# Altium integrated library Maxim Memory.IntLib: 366 symbols (part 6 of 7)
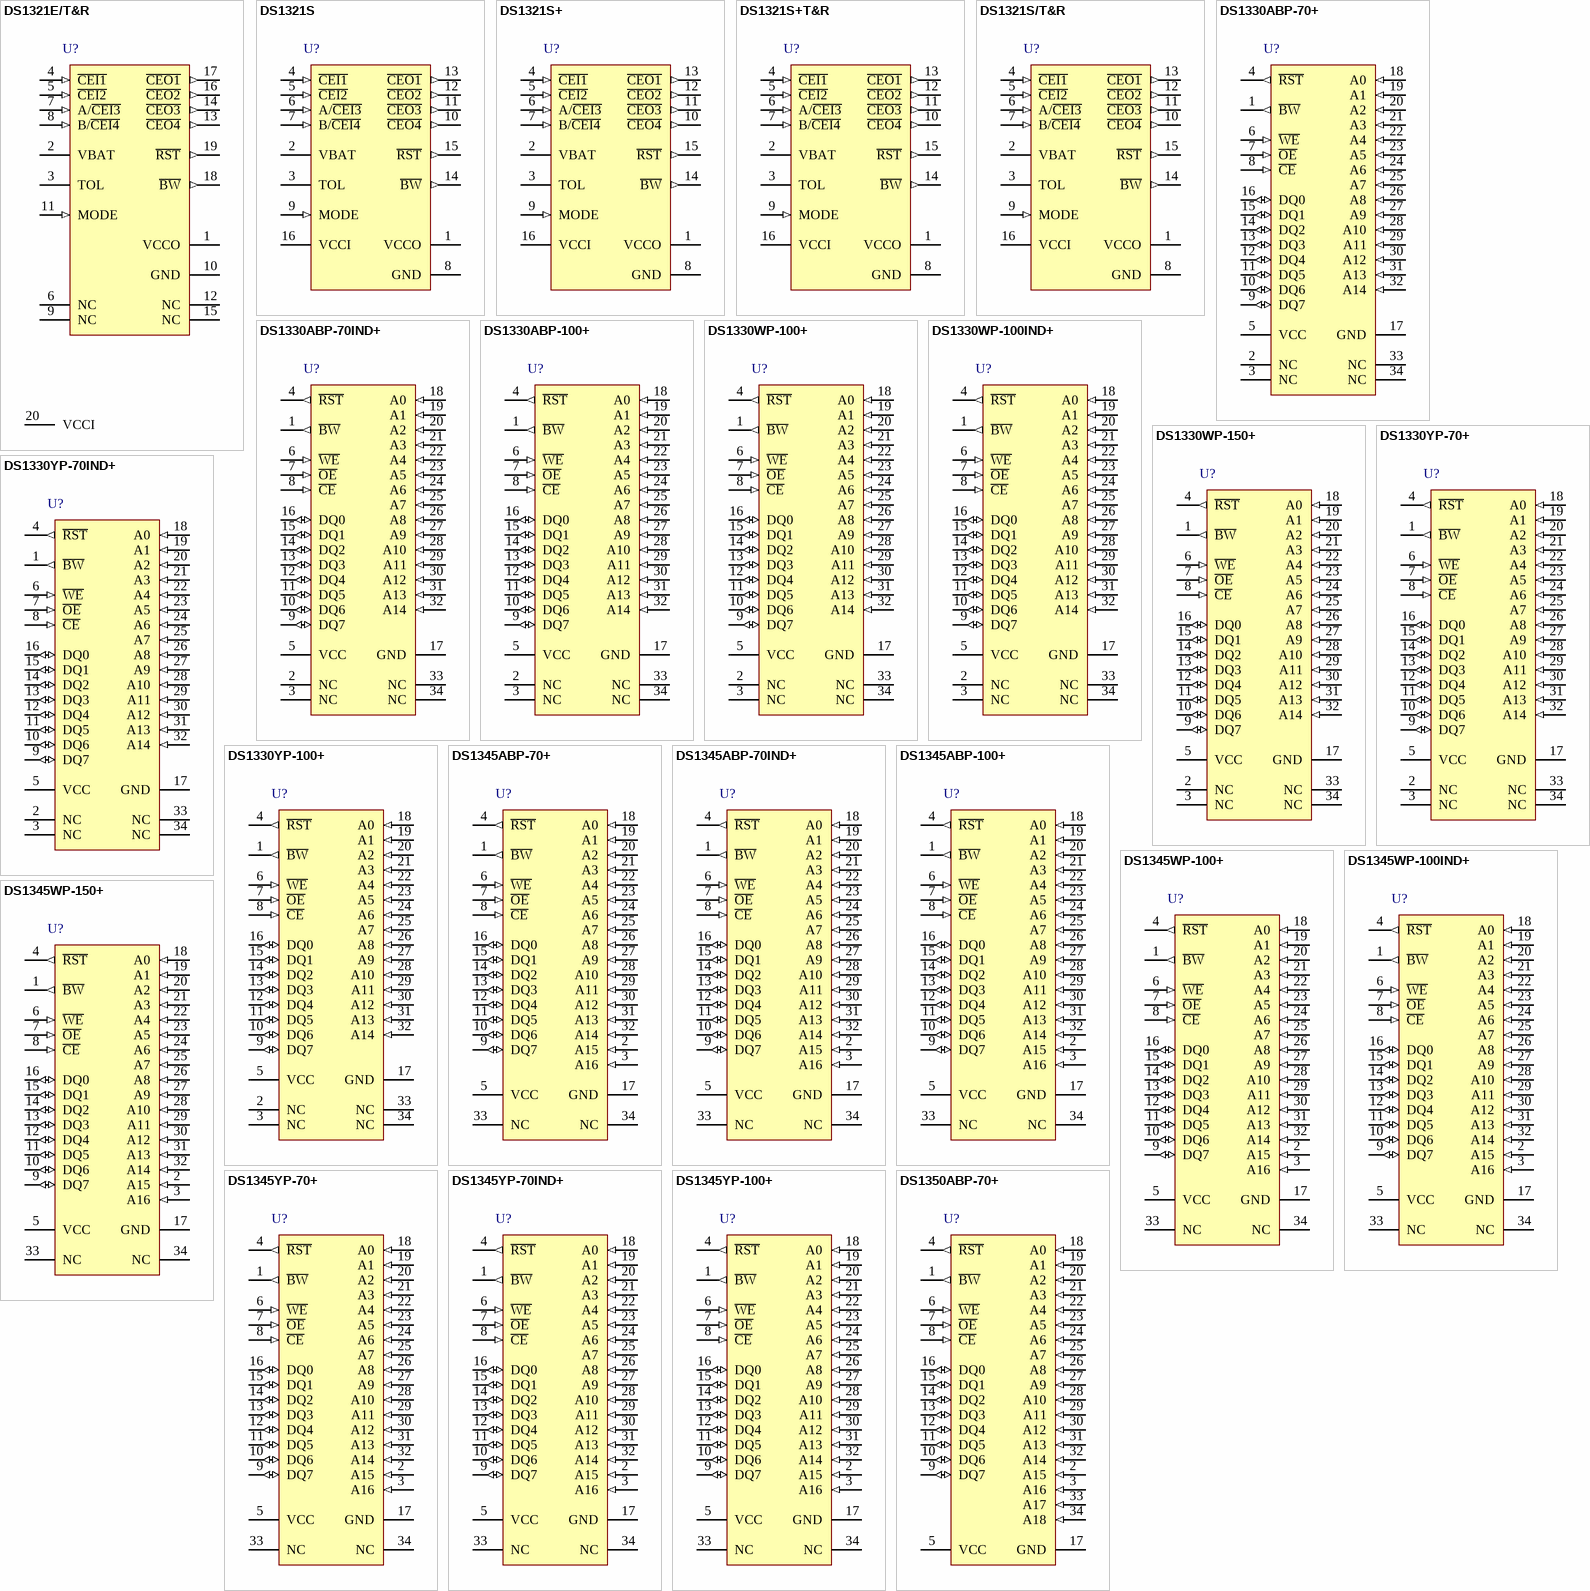
[diagram p18: symbols DS1321E/T&R to DS1350ABP-70+]

## DS1330WP-100+
designator U?
256Kb 3.3V Nonvolatile SRAM with Battery Monitor, 34-pin PCAP, 0° to + 70° C, Pb-Free; DatasheetVersion: 1/10/2010; PackageVersion: revA, 2004; PackageReference: PC2+4; PackageDescription: 34-Pin PowerCap 0.990 Module with Cap, Pb-Free; ComponentLink1Description: Manufacturer URL; ComponentLink1URL: www.maxim-ic.com; ComponentLink2Description: Datasheet; ComponentLink2URL: http://datasheets.maxim-ic.com/en/ds/DS1330W.pdf
footprint PC2+4 (PowerCap Module with Cap, 34-Leads, Body 24.7 x.25.3mm, Pitch 1.27mm)
pins: 1 ~{BW} (out), 2 NC, 3 NC, 4 ~{RST} (out), 5 VCC (power), 6 ~{WE} (in), 7 ~{OE} (in), 8 ~{CE} (in), 9 DQ7 (io), 10 DQ6 (io), 11 DQ5 (io), 12 DQ4 (io), 13 DQ3 (io), 14 DQ2 (io), 15 DQ1 (io), 16 DQ0 (io), 17 GND (power), 18 A0 (in), 19 A1 (in), 20 A2 (in), 21 A3 (in), 22 A4 (in), 23 A5 (in), 24 A6 (in), 25 A7 (in), 26 A8 (in), 27 A9 (in), 28 A10 (in), 29 A11 (in), 30 A12 (in), 31 A13 (in), 32 A14 (in), 33 NC, 34 NC

## DS1330WP-100IND+
designator U?
256Kb 3.3V Nonvolatile SRAM with Battery Monitor, 34-pin PCAP, -40° to + 85° C, Pb-Free; DatasheetVersion: 1/10/2010; PackageVersion: revA, 2004; PackageReference: PC2+4; PackageDescription: 34-Pin PowerCap 0.990 Module with Cap, Pb-Free; ComponentLink1Description: Manufacturer URL; ComponentLink1URL: www.maxim-ic.com; ComponentLink2Description: Datasheet; ComponentLink2URL: http://datasheets.maxim-ic.com/en/ds/DS1330W.pdf
footprint PC2+4 (PowerCap Module with Cap, 34-Leads, Body 24.7 x.25.3mm, Pitch 1.27mm)
pins: 1 ~{BW} (out), 2 NC, 3 NC, 4 ~{RST} (out), 5 VCC (power), 6 ~{WE} (in), 7 ~{OE} (in), 8 ~{CE} (in), 9 DQ7 (io), 10 DQ6 (io), 11 DQ5 (io), 12 DQ4 (io), 13 DQ3 (io), 14 DQ2 (io), 15 DQ1 (io), 16 DQ0 (io), 17 GND (power), 18 A0 (in), 19 A1 (in), 20 A2 (in), 21 A3 (in), 22 A4 (in), 23 A5 (in), 24 A6 (in), 25 A7 (in), 26 A8 (in), 27 A9 (in), 28 A10 (in), 29 A11 (in), 30 A12 (in), 31 A13 (in), 32 A14 (in), 33 NC, 34 NC

## DS1330WP-150+
designator U?
256Kb 3.3V Nonvolatile SRAM with Battery Monitor, 34-pin PCAP, 0° to + 70° C, Pb-Free; DatasheetVersion: 1/10/2010; PackageVersion: revA, 2004; PackageReference: PC2+4; PackageDescription: 34-Pin PowerCap 0.990 Module with Cap, Pb-Free; ComponentLink1Description: Manufacturer URL; ComponentLink1URL: www.maxim-ic.com; ComponentLink2Description: Datasheet; ComponentLink2URL: http://datasheets.maxim-ic.com/en/ds/DS1330W.pdf
footprint PC2+4 (PowerCap Module with Cap, 34-Leads, Body 24.7 x.25.3mm, Pitch 1.27mm)
pins: 1 ~{BW} (out), 2 NC, 3 NC, 4 ~{RST} (out), 5 VCC (power), 6 ~{WE} (in), 7 ~{OE} (in), 8 ~{CE} (in), 9 DQ7 (io), 10 DQ6 (io), 11 DQ5 (io), 12 DQ4 (io), 13 DQ3 (io), 14 DQ2 (io), 15 DQ1 (io), 16 DQ0 (io), 17 GND (power), 18 A0 (in), 19 A1 (in), 20 A2 (in), 21 A3 (in), 22 A4 (in), 23 A5 (in), 24 A6 (in), 25 A7 (in), 26 A8 (in), 27 A9 (in), 28 A10 (in), 29 A11 (in), 30 A12 (in), 31 A13 (in), 32 A14 (in), 33 NC, 34 NC

## DS1330YP-70+
designator U?
256Kb Nonvolatile SRAM with Battery Monitor, +/-10% VCC Operating range, 34-pin PCAP, 0° to + 70° C, Pb-Free; DatasheetVersion: 1/10/2010; PackageVersion: revA, 2004; PackageReference: PC2+4; PackageDescription: 34-Pin PowerCap 0.990 Module with Cap, Pb-Free; ComponentLink1Description: Manufacturer URL; ComponentLink1URL: www.maxim-ic.com; ComponentLink2Description: Datasheet; ComponentLink2URL: http://datasheets.maxim-ic.com/en/ds/DS1330AB-DS1330Y.pdf
footprint PC2+4 (PowerCap Module with Cap, 34-Leads, Body 24.7 x.25.3mm, Pitch 1.27mm)
pins: 1 ~{BW} (out), 2 NC, 3 NC, 4 ~{RST} (out), 5 VCC (power), 6 ~{WE} (in), 7 ~{OE} (in), 8 ~{CE} (in), 9 DQ7 (io), 10 DQ6 (io), 11 DQ5 (io), 12 DQ4 (io), 13 DQ3 (io), 14 DQ2 (io), 15 DQ1 (io), 16 DQ0 (io), 17 GND (power), 18 A0 (in), 19 A1 (in), 20 A2 (in), 21 A3 (in), 22 A4 (in), 23 A5 (in), 24 A6 (in), 25 A7 (in), 26 A8 (in), 27 A9 (in), 28 A10 (in), 29 A11 (in), 30 A12 (in), 31 A13 (in), 32 A14 (in), 33 NC, 34 NC

## DS1330YP-70IND+
designator U?
256Kb Nonvolatile SRAM with Battery Monitor, +/-10% VCC Operating range, 34-pin PCAP, -40° to + 85° C, Pb-Free; DatasheetVersion: 1/10/2010; PackageVersion: revA, 2004; PackageReference: PC2+4; PackageDescription: 34-Pin PowerCap 0.990 Module with Cap, Pb-Free; ComponentLink1Description: Manufacturer URL; ComponentLink1URL: www.maxim-ic.com; ComponentLink2Description: Datasheet; ComponentLink2URL: http://datasheets.maxim-ic.com/en/ds/DS1330AB-DS1330Y.pdf
footprint PC2+4 (PowerCap Module with Cap, 34-Leads, Body 24.7 x.25.3mm, Pitch 1.27mm)
pins: 1 ~{BW} (out), 2 NC, 3 NC, 4 ~{RST} (out), 5 VCC (power), 6 ~{WE} (in), 7 ~{OE} (in), 8 ~{CE} (in), 9 DQ7 (io), 10 DQ6 (io), 11 DQ5 (io), 12 DQ4 (io), 13 DQ3 (io), 14 DQ2 (io), 15 DQ1 (io), 16 DQ0 (io), 17 GND (power), 18 A0 (in), 19 A1 (in), 20 A2 (in), 21 A3 (in), 22 A4 (in), 23 A5 (in), 24 A6 (in), 25 A7 (in), 26 A8 (in), 27 A9 (in), 28 A10 (in), 29 A11 (in), 30 A12 (in), 31 A13 (in), 32 A14 (in), 33 NC, 34 NC

## DS1330YP-100+
designator U?
256Kb Nonvolatile SRAM with Battery Monitor, +/-10% VCC Operating range, 34-pin PCAP, 0° to + 70° C, Pb-Free; DatasheetVersion: 1/10/2010; PackageVersion: revA, 2004; PackageReference: PC2+4; PackageDescription: 34-Pin PowerCap 0.990 Module with Cap, Pb-Free; ComponentLink1Description: Manufacturer URL; ComponentLink1URL: www.maxim-ic.com; ComponentLink2Description: Datasheet; ComponentLink2URL: http://datasheets.maxim-ic.com/en/ds/DS1330AB-DS1330Y.pdf
footprint PC2+4 (PowerCap Module with Cap, 34-Leads, Body 24.7 x.25.3mm, Pitch 1.27mm)
pins: 1 ~{BW} (out), 2 NC, 3 NC, 4 ~{RST} (out), 5 VCC (power), 6 ~{WE} (in), 7 ~{OE} (in), 8 ~{CE} (in), 9 DQ7 (io), 10 DQ6 (io), 11 DQ5 (io), 12 DQ4 (io), 13 DQ3 (io), 14 DQ2 (io), 15 DQ1 (io), 16 DQ0 (io), 17 GND (power), 18 A0 (in), 19 A1 (in), 20 A2 (in), 21 A3 (in), 22 A4 (in), 23 A5 (in), 24 A6 (in), 25 A7 (in), 26 A8 (in), 27 A9 (in), 28 A10 (in), 29 A11 (in), 30 A12 (in), 31 A13 (in), 32 A14 (in), 33 NC, 34 NC

## DS1345ABP-70+
designator U?
1Mb Nonvolatile SRAM with Battery Monitor, +/-5% VCC Operating range, 34-pin PCAP, 0° to + 70° C, Pb-Free; DatasheetVersion: 1/10/2010; PackageVersion: revA, 2004; PackageReference: PC2+3; PackageDescription: 34-Pin PowerCap 0.990 Module with Cap, Pb-Free; ComponentLink1Description: Manufacturer URL; ComponentLink1URL: www.maxim-ic.com; ComponentLink2Description: Datasheet; ComponentLink2URL: http://datasheets.maxim-ic.com/en/ds/DS1345AB-DS1345Y.pdf
footprint PC2+3 (PowerCap Module with Cap, 34-Leads, Body 24.7 x.25.3mm, Pitch 1.27mm)
pins: 1 ~{BW} (out), 2 A15 (in), 3 A16 (in), 4 ~{RST} (out), 5 VCC (power), 6 ~{WE} (in), 7 ~{OE} (in), 8 ~{CE} (in), 9 DQ7 (io), 10 DQ6 (io), 11 DQ5 (io), 12 DQ4 (io), 13 DQ3 (io), 14 DQ2 (io), 15 DQ1 (io), 16 DQ0 (io), 17 GND (power), 18 A0 (in), 19 A1 (in), 20 A2 (in), 21 A3 (in), 22 A4 (in), 23 A5 (in), 24 A6 (in), 25 A7 (in), 26 A8 (in), 27 A9 (in), 28 A10 (in), 29 A11 (in), 30 A12 (in), 31 A13 (in), 32 A14 (in), 33 NC, 34 NC

## DS1345ABP-70IND+
designator U?
1Mb Nonvolatile SRAM with Battery Monitor, +/-5% VCC Operating range, 34-pin PCAP, -40° to + 85° C, Pb-Free; DatasheetVersion: 1/10/2010; PackageVersion: revA, 2004; PackageReference: PC2+3; PackageDescription: 34-Pin PowerCap 0.990 Module with Cap, Pb-Free; ComponentLink1Description: Manufacturer URL; ComponentLink1URL: www.maxim-ic.com; ComponentLink2Description: Datasheet; ComponentLink2URL: http://datasheets.maxim-ic.com/en/ds/DS1345AB-DS1345Y.pdf
footprint PC2+3 (PowerCap Module with Cap, 34-Leads, Body 24.7 x.25.3mm, Pitch 1.27mm)
pins: 1 ~{BW} (out), 2 A15 (in), 3 A16 (in), 4 ~{RST} (out), 5 VCC (power), 6 ~{WE} (in), 7 ~{OE} (in), 8 ~{CE} (in), 9 DQ7 (io), 10 DQ6 (io), 11 DQ5 (io), 12 DQ4 (io), 13 DQ3 (io), 14 DQ2 (io), 15 DQ1 (io), 16 DQ0 (io), 17 GND (power), 18 A0 (in), 19 A1 (in), 20 A2 (in), 21 A3 (in), 22 A4 (in), 23 A5 (in), 24 A6 (in), 25 A7 (in), 26 A8 (in), 27 A9 (in), 28 A10 (in), 29 A11 (in), 30 A12 (in), 31 A13 (in), 32 A14 (in), 33 NC, 34 NC

## DS1345ABP-100+
designator U?
1Mb Nonvolatile SRAM with Battery Monitor, +/-5% VCC Operating range, 34-pin PCAP, 0° to + 70° C, Pb-Free; DatasheetVersion: 1/10/2010; PackageVersion: revA, 2004; PackageReference: PC2+3; PackageDescription: 34-Pin PowerCap 0.990 Module with Cap, Pb-Free; ComponentLink1Description: Manufacturer URL; ComponentLink1URL: www.maxim-ic.com; ComponentLink2Description: Datasheet; ComponentLink2URL: http://datasheets.maxim-ic.com/en/ds/DS1345AB-DS1345Y.pdf
footprint PC2+3 (PowerCap Module with Cap, 34-Leads, Body 24.7 x.25.3mm, Pitch 1.27mm)
pins: 1 ~{BW} (out), 2 A15 (in), 3 A16 (in), 4 ~{RST} (out), 5 VCC (power), 6 ~{WE} (in), 7 ~{OE} (in), 8 ~{CE} (in), 9 DQ7 (io), 10 DQ6 (io), 11 DQ5 (io), 12 DQ4 (io), 13 DQ3 (io), 14 DQ2 (io), 15 DQ1 (io), 16 DQ0 (io), 17 GND (power), 18 A0 (in), 19 A1 (in), 20 A2 (in), 21 A3 (in), 22 A4 (in), 23 A5 (in), 24 A6 (in), 25 A7 (in), 26 A8 (in), 27 A9 (in), 28 A10 (in), 29 A11 (in), 30 A12 (in), 31 A13 (in), 32 A14 (in), 33 NC, 34 NC

## DS1345WP-100+
designator U?
1Mb 3.3V Nonvolatile SRAM with Battery Monitor, 34-pin PCAP, 0° to + 70° C, Pb-Free; DatasheetVersion: 1/10/2010; PackageVersion: revA, 2004; PackageReference: PC2+3; PackageDescription: 34-Pin PowerCap 0.990 Module with Cap, Pb-Free; ComponentLink1Description: Manufacturer URL; ComponentLink1URL: www.maxim-ic.com; ComponentLink2Description: Datasheet; ComponentLink2URL: http://datasheets.maxim-ic.com/en/ds/DS1345W.pdf
footprint PC2+3 (PowerCap Module with Cap, 34-Leads, Body 24.7 x.25.3mm, Pitch 1.27mm)
pins: 1 ~{BW} (out), 2 A15 (in), 3 A16 (in), 4 ~{RST} (out), 5 VCC (power), 6 ~{WE} (in), 7 ~{OE} (in), 8 ~{CE} (in), 9 DQ7 (io), 10 DQ6 (io), 11 DQ5 (io), 12 DQ4 (io), 13 DQ3 (io), 14 DQ2 (io), 15 DQ1 (io), 16 DQ0 (io), 17 GND (power), 18 A0 (in), 19 A1 (in), 20 A2 (in), 21 A3 (in), 22 A4 (in), 23 A5 (in), 24 A6 (in), 25 A7 (in), 26 A8 (in), 27 A9 (in), 28 A10 (in), 29 A11 (in), 30 A12 (in), 31 A13 (in), 32 A14 (in), 33 NC, 34 NC

## DS1345WP-100IND+
designator U?
1Mb 3.3V Nonvolatile SRAM with Battery Monitor, 34-pin PCAP, -40° to + 85° C, Pb-Free; DatasheetVersion: 1/10/2010; PackageVersion: revA, 2004; PackageReference: PC2+3; PackageDescription: 34-Pin PowerCap 0.990 Module with Cap, Pb-Free; ComponentLink1Description: Manufacturer URL; ComponentLink1URL: www.maxim-ic.com; ComponentLink2Description: Datasheet; ComponentLink2URL: http://datasheets.maxim-ic.com/en/ds/DS1345W.pdf
footprint PC2+3 (PowerCap Module with Cap, 34-Leads, Body 24.7 x.25.3mm, Pitch 1.27mm)
pins: 1 ~{BW} (out), 2 A15 (in), 3 A16 (in), 4 ~{RST} (out), 5 VCC (power), 6 ~{WE} (in), 7 ~{OE} (in), 8 ~{CE} (in), 9 DQ7 (io), 10 DQ6 (io), 11 DQ5 (io), 12 DQ4 (io), 13 DQ3 (io), 14 DQ2 (io), 15 DQ1 (io), 16 DQ0 (io), 17 GND (power), 18 A0 (in), 19 A1 (in), 20 A2 (in), 21 A3 (in), 22 A4 (in), 23 A5 (in), 24 A6 (in), 25 A7 (in), 26 A8 (in), 27 A9 (in), 28 A10 (in), 29 A11 (in), 30 A12 (in), 31 A13 (in), 32 A14 (in), 33 NC, 34 NC

## DS1345WP-150+
designator U?
1Mb 3.3V Nonvolatile SRAM with Battery Monitor, 34-pin PCAP, 0° to + 70° C, Pb-Free; DatasheetVersion: 1/10/2010; PackageVersion: revA, 2004; PackageReference: PC2+3; PackageDescription: 34-Pin PowerCap 0.990 Module with Cap, Pb-Free; ComponentLink1Description: Manufacturer URL; ComponentLink1URL: www.maxim-ic.com; ComponentLink2Description: Datasheet; ComponentLink2URL: http://datasheets.maxim-ic.com/en/ds/DS1345W.pdf
footprint PC2+3 (PowerCap Module with Cap, 34-Leads, Body 24.7 x.25.3mm, Pitch 1.27mm)
pins: 1 ~{BW} (out), 2 A15 (in), 3 A16 (in), 4 ~{RST} (out), 5 VCC (power), 6 ~{WE} (in), 7 ~{OE} (in), 8 ~{CE} (in), 9 DQ7 (io), 10 DQ6 (io), 11 DQ5 (io), 12 DQ4 (io), 13 DQ3 (io), 14 DQ2 (io), 15 DQ1 (io), 16 DQ0 (io), 17 GND (power), 18 A0 (in), 19 A1 (in), 20 A2 (in), 21 A3 (in), 22 A4 (in), 23 A5 (in), 24 A6 (in), 25 A7 (in), 26 A8 (in), 27 A9 (in), 28 A10 (in), 29 A11 (in), 30 A12 (in), 31 A13 (in), 32 A14 (in), 33 NC, 34 NC

## DS1345YP-70+
designator U?
1Mb Nonvolatile SRAM with Battery Monitor, +/-10% VCC Operating range, 34-pin PCAP, 0° to + 70° C, Pb-Free; DatasheetVersion: 1/10/2010; PackageVersion: revA, 2004; PackageReference: PC2+3; PackageDescription: 34-Pin PowerCap 0.990 Module with Cap, Pb-Free; ComponentLink1Description: Manufacturer URL; ComponentLink1URL: www.maxim-ic.com; ComponentLink2Description: Datasheet; ComponentLink2URL: http://datasheets.maxim-ic.com/en/ds/DS1345AB-DS1345Y.pdf
footprint PC2+3 (PowerCap Module with Cap, 34-Leads, Body 24.7 x.25.3mm, Pitch 1.27mm)
pins: 1 ~{BW} (out), 2 A15 (in), 3 A16 (in), 4 ~{RST} (out), 5 VCC (power), 6 ~{WE} (in), 7 ~{OE} (in), 8 ~{CE} (in), 9 DQ7 (io), 10 DQ6 (io), 11 DQ5 (io), 12 DQ4 (io), 13 DQ3 (io), 14 DQ2 (io), 15 DQ1 (io), 16 DQ0 (io), 17 GND (power), 18 A0 (in), 19 A1 (in), 20 A2 (in), 21 A3 (in), 22 A4 (in), 23 A5 (in), 24 A6 (in), 25 A7 (in), 26 A8 (in), 27 A9 (in), 28 A10 (in), 29 A11 (in), 30 A12 (in), 31 A13 (in), 32 A14 (in), 33 NC, 34 NC

## DS1345YP-70IND+
designator U?
1Mb Nonvolatile SRAM with Battery Monitor, +/-10% VCC Operating range, 34-pin PCAP, -40° to + 85° C, Pb-Free; DatasheetVersion: 1/10/2010; PackageVersion: revA, 2004; PackageReference: PC2+3; PackageDescription: 34-Pin PowerCap 0.990 Module with Cap, Pb-Free; ComponentLink1Description: Manufacturer URL; ComponentLink1URL: www.maxim-ic.com; ComponentLink2Description: Datasheet; ComponentLink2URL: http://datasheets.maxim-ic.com/en/ds/DS1345AB-DS1345Y.pdf
footprint PC2+3 (PowerCap Module with Cap, 34-Leads, Body 24.7 x.25.3mm, Pitch 1.27mm)
pins: 1 ~{BW} (out), 2 A15 (in), 3 A16 (in), 4 ~{RST} (out), 5 VCC (power), 6 ~{WE} (in), 7 ~{OE} (in), 8 ~{CE} (in), 9 DQ7 (io), 10 DQ6 (io), 11 DQ5 (io), 12 DQ4 (io), 13 DQ3 (io), 14 DQ2 (io), 15 DQ1 (io), 16 DQ0 (io), 17 GND (power), 18 A0 (in), 19 A1 (in), 20 A2 (in), 21 A3 (in), 22 A4 (in), 23 A5 (in), 24 A6 (in), 25 A7 (in), 26 A8 (in), 27 A9 (in), 28 A10 (in), 29 A11 (in), 30 A12 (in), 31 A13 (in), 32 A14 (in), 33 NC, 34 NC

## DS1345YP-100+
designator U?
1Mb Nonvolatile SRAM with Battery Monitor, +/-10% VCC Operating range, 34-pin PCAP, 0° to + 70° C, Pb-Free; DatasheetVersion: 1/10/2010; PackageVersion: revA, 2004; PackageReference: PC2+3; PackageDescription: 34-Pin PowerCap 0.990 Module with Cap, Pb-Free; ComponentLink1Description: Manufacturer URL; ComponentLink1URL: www.maxim-ic.com; ComponentLink2Description: Datasheet; ComponentLink2URL: http://datasheets.maxim-ic.com/en/ds/DS1345AB-DS1345Y.pdf
footprint PC2+3 (PowerCap Module with Cap, 34-Leads, Body 24.7 x.25.3mm, Pitch 1.27mm)
pins: 1 ~{BW} (out), 2 A15 (in), 3 A16 (in), 4 ~{RST} (out), 5 VCC (power), 6 ~{WE} (in), 7 ~{OE} (in), 8 ~{CE} (in), 9 DQ7 (io), 10 DQ6 (io), 11 DQ5 (io), 12 DQ4 (io), 13 DQ3 (io), 14 DQ2 (io), 15 DQ1 (io), 16 DQ0 (io), 17 GND (power), 18 A0 (in), 19 A1 (in), 20 A2 (in), 21 A3 (in), 22 A4 (in), 23 A5 (in), 24 A6 (in), 25 A7 (in), 26 A8 (in), 27 A9 (in), 28 A10 (in), 29 A11 (in), 30 A12 (in), 31 A13 (in), 32 A14 (in), 33 NC, 34 NC

## DS1350ABP-70+
designator U?
4Mb Nonvolatile SRAM with Battery Monitor, +/-5% VCC Operating range, 34-pin PCAP, 0° to + 70° C, Pb-Free; DatasheetVersion: 1/10/2010; PackageVersion: revA, 2004; PackageReference: PC2+5; PackageDescription: 34-Pin PowerCap 0.990 Module with Cap, Pb-Free; ComponentLink1Description: Manufacturer URL; ComponentLink1URL: www.maxim-ic.com; ComponentLink2Description: Datasheet; ComponentLink2URL: http://datasheets.maxim-ic.com/en/ds/DS1350AB-DS1350Y.pdf
footprint PC2+5 (PowerCap Module with Cap, 34-Leads, Body 24.7 x.25.3mm, Pitch 1.27mm)
pins: 1 ~{BW} (out), 2 A15 (in), 3 A16 (in), 4 ~{RST} (out), 5 VCC (power), 6 ~{WE} (in), 7 ~{OE} (in), 8 ~{CE} (in), 9 DQ7 (io), 10 DQ6 (io), 11 DQ5 (io), 12 DQ4 (io), 13 DQ3 (io), 14 DQ2 (io), 15 DQ1 (io), 16 DQ0 (io), 17 GND (power), 18 A0 (in), 19 A1 (in), 20 A2 (in), 21 A3 (in), 22 A4 (in), 23 A5 (in), 24 A6 (in), 25 A7 (in), 26 A8 (in), 27 A9 (in), 28 A10 (in), 29 A11 (in), 30 A12 (in), 31 A13 (in), 32 A14 (in), 33 A17 (in), 34 A18 (in)

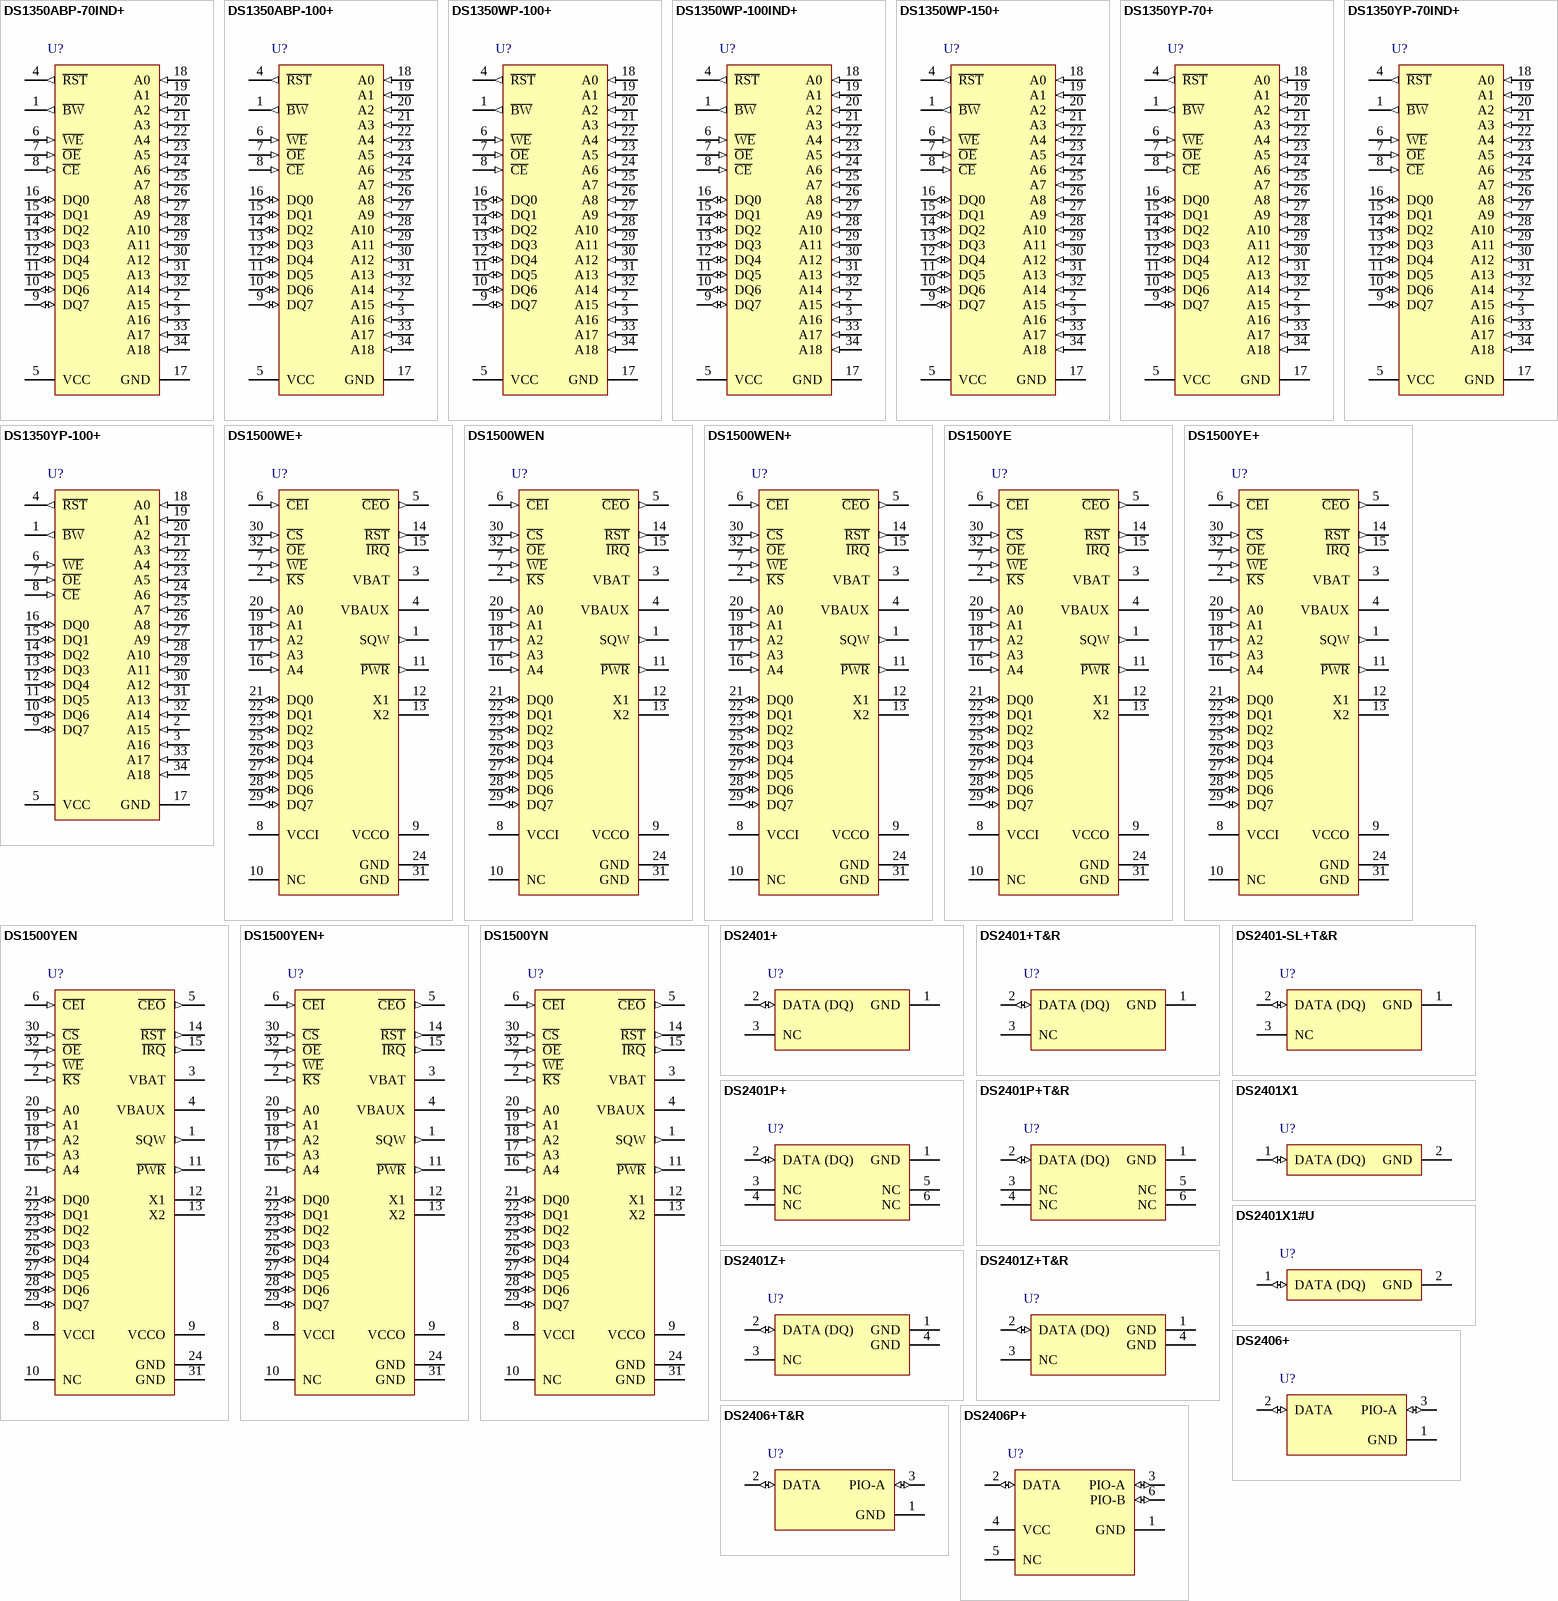
[diagram p11: symbols DS1350ABP-70IND+ to DS2406P+]

## DS1350ABP-70IND+
designator U?
4Mb Nonvolatile SRAM with Battery Monitor, +/-5% VCC Operating range, 34-pin PCAP, -40° to + 85° C, Pb-Free; DatasheetVersion: 1/10/2010; PackageVersion: revA, 2004; PackageReference: PC2+5; PackageDescription: 34-Pin PowerCap 0.990 Module with Cap, Pb-Free; ComponentLink1Description: Manufacturer URL; ComponentLink1URL: www.maxim-ic.com; ComponentLink2Description: Datasheet; ComponentLink2URL: http://datasheets.maxim-ic.com/en/ds/DS1350AB-DS1350Y.pdf
footprint PC2+5 (PowerCap Module with Cap, 34-Leads, Body 24.7 x.25.3mm, Pitch 1.27mm)
pins: 1 ~{BW} (out), 2 A15 (in), 3 A16 (in), 4 ~{RST} (out), 5 VCC (power), 6 ~{WE} (in), 7 ~{OE} (in), 8 ~{CE} (in), 9 DQ7 (io), 10 DQ6 (io), 11 DQ5 (io), 12 DQ4 (io), 13 DQ3 (io), 14 DQ2 (io), 15 DQ1 (io), 16 DQ0 (io), 17 GND (power), 18 A0 (in), 19 A1 (in), 20 A2 (in), 21 A3 (in), 22 A4 (in), 23 A5 (in), 24 A6 (in), 25 A7 (in), 26 A8 (in), 27 A9 (in), 28 A10 (in), 29 A11 (in), 30 A12 (in), 31 A13 (in), 32 A14 (in), 33 A17 (in), 34 A18 (in)

## DS1350ABP-100+
designator U?
4Mb Nonvolatile SRAM with Battery Monitor, +/-5% VCC Operating range, 34-pin PCAP, 0° to + 70° C, Pb-Free; DatasheetVersion: 1/10/2010; PackageVersion: revA, 2004; PackageReference: PC2+5; PackageDescription: 34-Pin PowerCap 0.990 Module with Cap, Pb-Free; ComponentLink1Description: Manufacturer URL; ComponentLink1URL: www.maxim-ic.com; ComponentLink2Description: Datasheet; ComponentLink2URL: http://datasheets.maxim-ic.com/en/ds/DS1350AB-DS1350Y.pdf
footprint PC2+5 (PowerCap Module with Cap, 34-Leads, Body 24.7 x.25.3mm, Pitch 1.27mm)
pins: 1 ~{BW} (out), 2 A15 (in), 3 A16 (in), 4 ~{RST} (out), 5 VCC (power), 6 ~{WE} (in), 7 ~{OE} (in), 8 ~{CE} (in), 9 DQ7 (io), 10 DQ6 (io), 11 DQ5 (io), 12 DQ4 (io), 13 DQ3 (io), 14 DQ2 (io), 15 DQ1 (io), 16 DQ0 (io), 17 GND (power), 18 A0 (in), 19 A1 (in), 20 A2 (in), 21 A3 (in), 22 A4 (in), 23 A5 (in), 24 A6 (in), 25 A7 (in), 26 A8 (in), 27 A9 (in), 28 A10 (in), 29 A11 (in), 30 A12 (in), 31 A13 (in), 32 A14 (in), 33 A17 (in), 34 A18 (in)

## DS1350WP-100+
designator U?
4Mb 3.3V Nonvolatile SRAM with Battery Monitor, 34-pin PCAP, 0° to + 70° C, Pb-Free; DatasheetVersion: 1/10/2010; PackageVersion: revA, 2004; PackageReference: PC2+5; PackageDescription: 34-Pin PowerCap 0.990 Module with Cap, Pb-Free; ComponentLink1Description: Manufacturer URL; ComponentLink1URL: www.maxim-ic.com; ComponentLink2Description: Datasheet; ComponentLink2URL: http://datasheets.maxim-ic.com/en/ds/DS1350W.pdf
footprint PC2+5 (PowerCap Module with Cap, 34-Leads, Body 24.7 x.25.3mm, Pitch 1.27mm)
pins: 1 ~{BW} (out), 2 A15 (in), 3 A16 (in), 4 ~{RST} (out), 5 VCC (power), 6 ~{WE} (in), 7 ~{OE} (in), 8 ~{CE} (in), 9 DQ7 (io), 10 DQ6 (io), 11 DQ5 (io), 12 DQ4 (io), 13 DQ3 (io), 14 DQ2 (io), 15 DQ1 (io), 16 DQ0 (io), 17 GND (power), 18 A0 (in), 19 A1 (in), 20 A2 (in), 21 A3 (in), 22 A4 (in), 23 A5 (in), 24 A6 (in), 25 A7 (in), 26 A8 (in), 27 A9 (in), 28 A10 (in), 29 A11 (in), 30 A12 (in), 31 A13 (in), 32 A14 (in), 33 A17 (in), 34 A18 (in)

## DS1350WP-100IND+
designator U?
4Mb 3.3V Nonvolatile SRAM with Battery Monitor, 34-pin PCAP, -40° to + 85° C, Pb-Free; DatasheetVersion: 1/10/2010; PackageVersion: revA, 2004; PackageReference: PC2+5; PackageDescription: 34-Pin PowerCap 0.990 Module with Cap, Pb-Free; ComponentLink1Description: Manufacturer URL; ComponentLink1URL: www.maxim-ic.com; ComponentLink2Description: Datasheet; ComponentLink2URL: http://datasheets.maxim-ic.com/en/ds/DS1350W.pdf
footprint PC2+5 (PowerCap Module with Cap, 34-Leads, Body 24.7 x.25.3mm, Pitch 1.27mm)
pins: 1 ~{BW} (out), 2 A15 (in), 3 A16 (in), 4 ~{RST} (out), 5 VCC (power), 6 ~{WE} (in), 7 ~{OE} (in), 8 ~{CE} (in), 9 DQ7 (io), 10 DQ6 (io), 11 DQ5 (io), 12 DQ4 (io), 13 DQ3 (io), 14 DQ2 (io), 15 DQ1 (io), 16 DQ0 (io), 17 GND (power), 18 A0 (in), 19 A1 (in), 20 A2 (in), 21 A3 (in), 22 A4 (in), 23 A5 (in), 24 A6 (in), 25 A7 (in), 26 A8 (in), 27 A9 (in), 28 A10 (in), 29 A11 (in), 30 A12 (in), 31 A13 (in), 32 A14 (in), 33 A17 (in), 34 A18 (in)

## DS1350WP-150+
designator U?
4Mb 3.3V Nonvolatile SRAM with Battery Monitor, 34-pin PCAP, 0° to + 70° C, Pb-Free; DatasheetVersion: 1/10/2010; PackageVersion: revA, 2004; PackageReference: PC2+5; PackageDescription: 34-Pin PowerCap 0.990 Module with Cap, Pb-Free; ComponentLink1Description: Manufacturer URL; ComponentLink1URL: www.maxim-ic.com; ComponentLink2Description: Datasheet; ComponentLink2URL: http://datasheets.maxim-ic.com/en/ds/DS1350W.pdf
footprint PC2+5 (PowerCap Module with Cap, 34-Leads, Body 24.7 x.25.3mm, Pitch 1.27mm)
pins: 1 ~{BW} (out), 2 A15 (in), 3 A16 (in), 4 ~{RST} (out), 5 VCC (power), 6 ~{WE} (in), 7 ~{OE} (in), 8 ~{CE} (in), 9 DQ7 (io), 10 DQ6 (io), 11 DQ5 (io), 12 DQ4 (io), 13 DQ3 (io), 14 DQ2 (io), 15 DQ1 (io), 16 DQ0 (io), 17 GND (power), 18 A0 (in), 19 A1 (in), 20 A2 (in), 21 A3 (in), 22 A4 (in), 23 A5 (in), 24 A6 (in), 25 A7 (in), 26 A8 (in), 27 A9 (in), 28 A10 (in), 29 A11 (in), 30 A12 (in), 31 A13 (in), 32 A14 (in), 33 A17 (in), 34 A18 (in)

## DS1350YP-70+
designator U?
4Mb Nonvolatile SRAM with Battery Monitor, +/-10% VCC Operating range, 34-pin PCAP, 0° to + 70° C, Pb-Free; DatasheetVersion: 1/10/2010; PackageVersion: revA, 2004; PackageReference: PC2+5; PackageDescription: 34-Pin PowerCap 0.990 Module with Cap, Pb-Free; ComponentLink1Description: Manufacturer URL; ComponentLink1URL: www.maxim-ic.com; ComponentLink2Description: Datasheet; ComponentLink2URL: http://datasheets.maxim-ic.com/en/ds/DS1350AB-DS1350Y.pdf
footprint PC2+5 (PowerCap Module with Cap, 34-Leads, Body 24.7 x.25.3mm, Pitch 1.27mm)
pins: 1 ~{BW} (out), 2 A15 (in), 3 A16 (in), 4 ~{RST} (out), 5 VCC (power), 6 ~{WE} (in), 7 ~{OE} (in), 8 ~{CE} (in), 9 DQ7 (io), 10 DQ6 (io), 11 DQ5 (io), 12 DQ4 (io), 13 DQ3 (io), 14 DQ2 (io), 15 DQ1 (io), 16 DQ0 (io), 17 GND (power), 18 A0 (in), 19 A1 (in), 20 A2 (in), 21 A3 (in), 22 A4 (in), 23 A5 (in), 24 A6 (in), 25 A7 (in), 26 A8 (in), 27 A9 (in), 28 A10 (in), 29 A11 (in), 30 A12 (in), 31 A13 (in), 32 A14 (in), 33 A17 (in), 34 A18 (in)

## DS1350YP-70IND+
designator U?
4Mb Nonvolatile SRAM with Battery Monitor, +/-10% VCC Operating range, 34-pin PCAP, -40° to + 85° C, Pb-Free; DatasheetVersion: 1/10/2010; PackageVersion: revA, 2004; PackageReference: PC2+5; PackageDescription: 34-Pin PowerCap 0.990 Module with Cap, Pb-Free; ComponentLink1Description: Manufacturer URL; ComponentLink1URL: www.maxim-ic.com; ComponentLink2Description: Datasheet; ComponentLink2URL: http://datasheets.maxim-ic.com/en/ds/DS1350AB-DS1350Y.pdf
footprint PC2+5 (PowerCap Module with Cap, 34-Leads, Body 24.7 x.25.3mm, Pitch 1.27mm)
pins: 1 ~{BW} (out), 2 A15 (in), 3 A16 (in), 4 ~{RST} (out), 5 VCC (power), 6 ~{WE} (in), 7 ~{OE} (in), 8 ~{CE} (in), 9 DQ7 (io), 10 DQ6 (io), 11 DQ5 (io), 12 DQ4 (io), 13 DQ3 (io), 14 DQ2 (io), 15 DQ1 (io), 16 DQ0 (io), 17 GND (power), 18 A0 (in), 19 A1 (in), 20 A2 (in), 21 A3 (in), 22 A4 (in), 23 A5 (in), 24 A6 (in), 25 A7 (in), 26 A8 (in), 27 A9 (in), 28 A10 (in), 29 A11 (in), 30 A12 (in), 31 A13 (in), 32 A14 (in), 33 A17 (in), 34 A18 (in)

## DS1350YP-100+
designator U?
4Mb Nonvolatile SRAM with Battery Monitor, +/-10% VCC Operating range, 34-pin PCAP, 0° to + 70° C, Pb-Free; DatasheetVersion: 1/10/2010; PackageVersion: revA, 2004; PackageReference: PC2+5; PackageDescription: 34-Pin PowerCap 0.990 Module with Cap, Pb-Free; ComponentLink1Description: Manufacturer URL; ComponentLink1URL: www.maxim-ic.com; ComponentLink2Description: Datasheet; ComponentLink2URL: http://datasheets.maxim-ic.com/en/ds/DS1350AB-DS1350Y.pdf
footprint PC2+5 (PowerCap Module with Cap, 34-Leads, Body 24.7 x.25.3mm, Pitch 1.27mm)
pins: 1 ~{BW} (out), 2 A15 (in), 3 A16 (in), 4 ~{RST} (out), 5 VCC (power), 6 ~{WE} (in), 7 ~{OE} (in), 8 ~{CE} (in), 9 DQ7 (io), 10 DQ6 (io), 11 DQ5 (io), 12 DQ4 (io), 13 DQ3 (io), 14 DQ2 (io), 15 DQ1 (io), 16 DQ0 (io), 17 GND (power), 18 A0 (in), 19 A1 (in), 20 A2 (in), 21 A3 (in), 22 A4 (in), 23 A5 (in), 24 A6 (in), 25 A7 (in), 26 A8 (in), 27 A9 (in), 28 A10 (in), 29 A11 (in), 30 A12 (in), 31 A13 (in), 32 A14 (in), 33 A17 (in), 34 A18 (in)

## DS1500WE+
designator U?
Y2K Watchdog RTC with Nonvolatile Control, 32-pin TSOP, 0° to + 70° C, Pb-Free; DatasheetVersion: 1/05/2009; PackageVersion: revB, 2010; PackageReference: Z32+4; PackageDescription: 32-Pin Thin Small Outline Package 0.5 mm Pitch, TSOP(1), 8 x 20 mm Body, Pb-Free; ComponentLink1Description: Manufacturer URL; ComponentLink1URL: www.maxim-ic.com; ComponentLink2Description: Datasheet; ComponentLink2URL: http://datasheets.maxim-ic.com/en/ds/DS1500.pdf
footprint Z32+4_N (TSSOP, 10-Leads, Body 8x18.4mm, Pitch 0.5mm, IPC Medium Density)
footprint Z32+4_L (TSSOP, 10-Leads, Body 8x18.4mm, Pitch 0.5mm, IPC High Density)
footprint Z32+4_M (TSSOP, 10-Leads, Body 8x18.4mm, Pitch 0.5mm, IPC Low Density)
pins: 1 SQW (out), 2 ~{KS} (in), 3 VBAT, 4 VBAUX, 5 ~{CEO} (out), 6 ~{CEI} (in), 7 ~{WE} (in), 8 VCCI (power), 9 VCCO (power), 10 NC, 11 ~{PWR} (out), 12 X1, 13 X2, 14 ~{RST} (out), 15 ~{IRQ} (out), 16 A4 (in), 17 A3 (in), 18 A2 (in), 19 A1 (in), 20 A0 (in), 21 DQ0 (io), 22 DQ1 (io), 23 DQ2 (io), 24 GND (power), 25 DQ3 (io), 26 DQ4 (io), 27 DQ5 (io), 28 DQ6 (io), 29 DQ7 (io), 30 ~{CS} (in), 31 GND (power), 32 ~{OE} (in)

## DS1500WEN
designator U?
Y2K Watchdog RTC with Nonvolatile Control, 32-pin TSOP, -40° to + 85° C; DatasheetVersion: 1/05/2009; PackageVersion: revB, 2010; PackageReference: Z32-4; PackageDescription: 32-Pin Thin Small Outline Package 0.5 mm Pitch, TSOP(1), 8 x 20 mm Body; ComponentLink1Description: Manufacturer URL; ComponentLink1URL: www.maxim-ic.com; ComponentLink2Description: Datasheet; ComponentLink2URL: http://datasheets.maxim-ic.com/en/ds/DS1500.pdf
footprint Z32-4_N (TSSOP, 10-Leads, Body 8x18.4mm, Pitch 0.5mm, IPC Medium Density)
footprint Z32-4_L (TSSOP, 10-Leads, Body 8x18.4mm, Pitch 0.5mm, IPC High Density)
footprint Z32-4_M (TSSOP, 10-Leads, Body 8x18.4mm, Pitch 0.5mm, IPC Low Density)
pins: 1 SQW (out), 2 ~{KS} (in), 3 VBAT, 4 VBAUX, 5 ~{CEO} (out), 6 ~{CEI} (in), 7 ~{WE} (in), 8 VCCI (power), 9 VCCO (power), 10 NC, 11 ~{PWR} (out), 12 X1, 13 X2, 14 ~{RST} (out), 15 ~{IRQ} (out), 16 A4 (in), 17 A3 (in), 18 A2 (in), 19 A1 (in), 20 A0 (in), 21 DQ0 (io), 22 DQ1 (io), 23 DQ2 (io), 24 GND (power), 25 DQ3 (io), 26 DQ4 (io), 27 DQ5 (io), 28 DQ6 (io), 29 DQ7 (io), 30 ~{CS} (in), 31 GND (power), 32 ~{OE} (in)

## DS1500WEN+
designator U?
Y2K Watchdog RTC with Nonvolatile Control, 32-pin TSOP, -40° to + 85° C, Pb-Free; DatasheetVersion: 1/05/2009; PackageVersion: revB, 2010; PackageReference: Z32+4; PackageDescription: 32-Pin Thin Small Outline Package 0.5 mm Pitch, TSOP(1), 8 x 20 mm Body, Pb-Free; ComponentLink1Description: Manufacturer URL; ComponentLink1URL: www.maxim-ic.com; ComponentLink2Description: Datasheet; ComponentLink2URL: http://datasheets.maxim-ic.com/en/ds/DS1500.pdf
footprint Z32+4_N (TSSOP, 10-Leads, Body 8x18.4mm, Pitch 0.5mm, IPC Medium Density)
footprint Z32+4_L (TSSOP, 10-Leads, Body 8x18.4mm, Pitch 0.5mm, IPC High Density)
footprint Z32+4_M (TSSOP, 10-Leads, Body 8x18.4mm, Pitch 0.5mm, IPC Low Density)
pins: 1 SQW (out), 2 ~{KS} (in), 3 VBAT, 4 VBAUX, 5 ~{CEO} (out), 6 ~{CEI} (in), 7 ~{WE} (in), 8 VCCI (power), 9 VCCO (power), 10 NC, 11 ~{PWR} (out), 12 X1, 13 X2, 14 ~{RST} (out), 15 ~{IRQ} (out), 16 A4 (in), 17 A3 (in), 18 A2 (in), 19 A1 (in), 20 A0 (in), 21 DQ0 (io), 22 DQ1 (io), 23 DQ2 (io), 24 GND (power), 25 DQ3 (io), 26 DQ4 (io), 27 DQ5 (io), 28 DQ6 (io), 29 DQ7 (io), 30 ~{CS} (in), 31 GND (power), 32 ~{OE} (in)

## DS1500YE
designator U?
Y2K Watchdog RTC with Nonvolatile Control, 32-pin TSOP, 0° to + 70° C; DatasheetVersion: 1/05/2009; PackageVersion: revB, 2010; PackageReference: Z32-4; PackageDescription: 32-Pin Thin Small Outline Package 0.5 mm Pitch, TSOP(1), 8 x 20 mm Body; ComponentLink1Description: Manufacturer URL; ComponentLink1URL: www.maxim-ic.com; ComponentLink2Description: Datasheet; ComponentLink2URL: http://datasheets.maxim-ic.com/en/ds/DS1500.pdf
footprint Z32-4_N (TSSOP, 10-Leads, Body 8x18.4mm, Pitch 0.5mm, IPC Medium Density)
footprint Z32-4_L (TSSOP, 10-Leads, Body 8x18.4mm, Pitch 0.5mm, IPC High Density)
footprint Z32-4_M (TSSOP, 10-Leads, Body 8x18.4mm, Pitch 0.5mm, IPC Low Density)
pins: 1 SQW (out), 2 ~{KS} (in), 3 VBAT, 4 VBAUX, 5 ~{CEO} (out), 6 ~{CEI} (in), 7 ~{WE} (in), 8 VCCI (power), 9 VCCO (power), 10 NC, 11 ~{PWR} (out), 12 X1, 13 X2, 14 ~{RST} (out), 15 ~{IRQ} (out), 16 A4 (in), 17 A3 (in), 18 A2 (in), 19 A1 (in), 20 A0 (in), 21 DQ0 (io), 22 DQ1 (io), 23 DQ2 (io), 24 GND (power), 25 DQ3 (io), 26 DQ4 (io), 27 DQ5 (io), 28 DQ6 (io), 29 DQ7 (io), 30 ~{CS} (in), 31 GND (power), 32 ~{OE} (in)

## DS1500YE+
designator U?
Y2K Watchdog RTC with Nonvolatile Control, 32-pin TSOP, 0° to + 70° C, Pb-Free; DatasheetVersion: 1/05/2009; PackageVersion: revB, 2010; PackageReference: Z32+4; PackageDescription: 32-Pin Thin Small Outline Package 0.5 mm Pitch, TSOP(1), 8 x 20 mm Body, Pb-Free; ComponentLink1Description: Manufacturer URL; ComponentLink1URL: www.maxim-ic.com; ComponentLink2Description: Datasheet; ComponentLink2URL: http://datasheets.maxim-ic.com/en/ds/DS1500.pdf
footprint Z32+4_N (TSSOP, 10-Leads, Body 8x18.4mm, Pitch 0.5mm, IPC Medium Density)
footprint Z32+4_L (TSSOP, 10-Leads, Body 8x18.4mm, Pitch 0.5mm, IPC High Density)
footprint Z32+4_M (TSSOP, 10-Leads, Body 8x18.4mm, Pitch 0.5mm, IPC Low Density)
pins: 1 SQW (out), 2 ~{KS} (in), 3 VBAT, 4 VBAUX, 5 ~{CEO} (out), 6 ~{CEI} (in), 7 ~{WE} (in), 8 VCCI (power), 9 VCCO (power), 10 NC, 11 ~{PWR} (out), 12 X1, 13 X2, 14 ~{RST} (out), 15 ~{IRQ} (out), 16 A4 (in), 17 A3 (in), 18 A2 (in), 19 A1 (in), 20 A0 (in), 21 DQ0 (io), 22 DQ1 (io), 23 DQ2 (io), 24 GND (power), 25 DQ3 (io), 26 DQ4 (io), 27 DQ5 (io), 28 DQ6 (io), 29 DQ7 (io), 30 ~{CS} (in), 31 GND (power), 32 ~{OE} (in)

## DS1500YEN
designator U?
Y2K Watchdog RTC with Nonvolatile Control, 32-pin TSOP, -40° to + 85° C; DatasheetVersion: 1/05/2009; PackageVersion: revB, 2010; PackageReference: Z32-4; PackageDescription: 32-Pin Thin Small Outline Package 0.5 mm Pitch, TSOP(1), 8 x 20 mm Body; ComponentLink1Description: Manufacturer URL; ComponentLink1URL: www.maxim-ic.com; ComponentLink2Description: Datasheet; ComponentLink2URL: http://datasheets.maxim-ic.com/en/ds/DS1500.pdf
footprint Z32-4_N (TSSOP, 10-Leads, Body 8x18.4mm, Pitch 0.5mm, IPC Medium Density)
footprint Z32-4_L (TSSOP, 10-Leads, Body 8x18.4mm, Pitch 0.5mm, IPC High Density)
footprint Z32-4_M (TSSOP, 10-Leads, Body 8x18.4mm, Pitch 0.5mm, IPC Low Density)
pins: 1 SQW (out), 2 ~{KS} (in), 3 VBAT, 4 VBAUX, 5 ~{CEO} (out), 6 ~{CEI} (in), 7 ~{WE} (in), 8 VCCI (power), 9 VCCO (power), 10 NC, 11 ~{PWR} (out), 12 X1, 13 X2, 14 ~{RST} (out), 15 ~{IRQ} (out), 16 A4 (in), 17 A3 (in), 18 A2 (in), 19 A1 (in), 20 A0 (in), 21 DQ0 (io), 22 DQ1 (io), 23 DQ2 (io), 24 GND (power), 25 DQ3 (io), 26 DQ4 (io), 27 DQ5 (io), 28 DQ6 (io), 29 DQ7 (io), 30 ~{CS} (in), 31 GND (power), 32 ~{OE} (in)

## DS1500YEN+
designator U?
Y2K Watchdog RTC with Nonvolatile Control, 32-pin TSOP, -40° to + 85° C, Pb-Free; DatasheetVersion: 1/05/2009; PackageVersion: revB, 2010; PackageReference: Z32+4; PackageDescription: 32-Pin Thin Small Outline Package 0.5 mm Pitch, TSOP(1), 8 x 20 mm Body, Pb-Free; ComponentLink1Description: Manufacturer URL; ComponentLink1URL: www.maxim-ic.com; ComponentLink2Description: Datasheet; ComponentLink2URL: http://datasheets.maxim-ic.com/en/ds/DS1500.pdf
footprint Z32+4_N (TSSOP, 10-Leads, Body 8x18.4mm, Pitch 0.5mm, IPC Medium Density)
footprint Z32+4_L (TSSOP, 10-Leads, Body 8x18.4mm, Pitch 0.5mm, IPC High Density)
footprint Z32+4_M (TSSOP, 10-Leads, Body 8x18.4mm, Pitch 0.5mm, IPC Low Density)
pins: 1 SQW (out), 2 ~{KS} (in), 3 VBAT, 4 VBAUX, 5 ~{CEO} (out), 6 ~{CEI} (in), 7 ~{WE} (in), 8 VCCI (power), 9 VCCO (power), 10 NC, 11 ~{PWR} (out), 12 X1, 13 X2, 14 ~{RST} (out), 15 ~{IRQ} (out), 16 A4 (in), 17 A3 (in), 18 A2 (in), 19 A1 (in), 20 A0 (in), 21 DQ0 (io), 22 DQ1 (io), 23 DQ2 (io), 24 GND (power), 25 DQ3 (io), 26 DQ4 (io), 27 DQ5 (io), 28 DQ6 (io), 29 DQ7 (io), 30 ~{CS} (in), 31 GND (power), 32 ~{OE} (in)

## DS1500YN
designator U?
Y2K Watchdog RTC with Nonvolatile Control, 32-pin TSOP, -40° to + 85° C; DatasheetVersion: 1/05/2009; PackageVersion: revB, 2010; PackageReference: Z32-4; PackageDescription: 32-Pin Thin Small Outline Package 0.5 mm Pitch, TSOP(1), 8 x 20 mm Body; ComponentLink1Description: Manufacturer URL; ComponentLink1URL: www.maxim-ic.com; ComponentLink2Description: Datasheet; ComponentLink2URL: http://datasheets.maxim-ic.com/en/ds/DS1500.pdf
footprint Z32-4_N (TSSOP, 10-Leads, Body 8x18.4mm, Pitch 0.5mm, IPC Medium Density)
footprint Z32-4_L (TSSOP, 10-Leads, Body 8x18.4mm, Pitch 0.5mm, IPC High Density)
footprint Z32-4_M (TSSOP, 10-Leads, Body 8x18.4mm, Pitch 0.5mm, IPC Low Density)
pins: 1 SQW (out), 2 ~{KS} (in), 3 VBAT, 4 VBAUX, 5 ~{CEO} (out), 6 ~{CEI} (in), 7 ~{WE} (in), 8 VCCI (power), 9 VCCO (power), 10 NC, 11 ~{PWR} (out), 12 X1, 13 X2, 14 ~{RST} (out), 15 ~{IRQ} (out), 16 A4 (in), 17 A3 (in), 18 A2 (in), 19 A1 (in), 20 A0 (in), 21 DQ0 (io), 22 DQ1 (io), 23 DQ2 (io), 24 GND (power), 25 DQ3 (io), 26 DQ4 (io), 27 DQ5 (io), 28 DQ6 (io), 29 DQ7 (io), 30 ~{CS} (in), 31 GND (power), 32 ~{OE} (in)

## DS2401+
designator U?
Silicon Serial Number, 3-pin TO-92, -40° to + 85° C, Pb-Free; DatasheetVersion: 1/02/2008; PackageVersion: revB, 2009; PackageReference: Q3+1; PackageDescription: TO-92 Package, Body Dia. 4.7mm; Leads 0.51 x 0.51 mm (max), Pb-Free; Code_JEDEC: TO-226-AA; ComponentLink1Description: Manufacturer URL; ComponentLink1URL: www.maxim-ic.com; ComponentLink2Description: Datasheet; ComponentLink2URL: http://datasheets.maxim-ic.com/en/ds/DS2401.pdf
footprint Q3+1 (TO, Flat Index; 3 In-Line, Axial Leads; Body Dia. 4.7mm; Leads 0.56 x 0.51 mm (max))
pins: 1 GND (power), 2 DATA (DQ) (io), 3 NC

## DS2401+T&R
designator U?
Silicon Serial Number, 3-pin TO-92, -40° to + 85° C, Pb-Free, Tape and Reel; DatasheetVersion: 1/02/2008; PackageVersion: revB, 2010; PackageReference: Q3+4; PackageDescription: TO-92 Package, Formed Leads, Body Dia. 4.7mm; Leads 0.51 x 0.51 mm (max), Pb-Free; Code_JEDEC: TO-226-AA; ComponentLink1Description: Manufacturer URL; ComponentLink1URL: www.maxim-ic.com; ComponentLink2Description: Datasheet; ComponentLink2URL: http://datasheets.maxim-ic.com/en/ds/DS2401.pdf
footprint Q3+4 (TO, Flat Index; 3 In-Line, Formed Axial Leads; Body Dia. 4.7mm; Leads 0.56 x 0.51 mm (max))
pins: 1 GND (power), 2 DATA (DQ) (io), 3 NC

## DS2401-SL+T&R
designator U?
Silicon Serial Number, 3-pin TO-92 with Straight Leads, -40° to + 85° C, Pb-Free, Tape and Reel; DatasheetVersion: 1/02/2008; PackageVersion: revB, 2009; PackageReference: Q3+1; PackageDescription: TO-92 Package, Body Dia. 4.7mm; Leads 0.51 x 0.51 mm (max), Pb-Free; Code_JEDEC: TO-226-AA; ComponentLink1Description: Manufacturer URL; ComponentLink1URL: www.maxim-ic.com; ComponentLink2Description: Datasheet; ComponentLink2URL: http://datasheets.maxim-ic.com/en/ds/DS2401.pdf
footprint Q3+1 (TO, Flat Index; 3 In-Line, Axial Leads; Body Dia. 4.7mm; Leads 0.56 x 0.51 mm (max))
pins: 1 GND (power), 2 DATA (DQ) (io), 3 NC

## DS2401P+
designator U?
Silicon Serial Number, 6-pin TSOC, -40° to + 85° C, Pb-Free; DatasheetVersion: 1/02/2008; PackageVersion: revE, 2011; PackageReference: D6+1; PackageDescription: Thin Small-Outline, 6 C-Leads, 3.9 x 3.8 mm Body, 1.27 mm Pitch, TSOC, Pb-Free; ComponentLink1Description: Manufacturer URL; ComponentLink1URL: www.maxim-ic.com; ComponentLink2Description: Datasheet; ComponentLink2URL: http://datasheets.maxim-ic.com/en/ds/DS2401.pdf
footprint D6+1 (Small Outline; 6 C-Bend Leads; Body Width 3.8 mm; Pitch 1.27 mm, Maxim Recommended)
pins: 1 GND (power), 2 DATA (DQ) (io), 3 NC, 4 NC, 5 NC, 6 NC

## DS2401P+T&R
designator U?
Silicon Serial Number, 6-pin TSOC, -40° to + 85° C, Pb-Free, Tape and Reel; DatasheetVersion: 1/02/2008; PackageVersion: revE, 2011; PackageReference: D6+1; PackageDescription: Thin Small-Outline, 6 C-Leads, 3.9 x 3.8 mm Body, 1.27 mm Pitch, TSOC, Pb-Free; ComponentLink1Description: Manufacturer URL; ComponentLink1URL: www.maxim-ic.com; ComponentLink2Description: Datasheet; ComponentLink2URL: http://datasheets.maxim-ic.com/en/ds/DS2401.pdf
footprint D6+1 (Small Outline; 6 C-Bend Leads; Body Width 3.8 mm; Pitch 1.27 mm, Maxim Recommended)
pins: 1 GND (power), 2 DATA (DQ) (io), 3 NC, 4 NC, 5 NC, 6 NC

## DS2401X1
designator U?
Silicon Serial Number, 2-pin CSP, -40° to + 85° C; DatasheetVersion: 1/02/2008; PackageVersion: revB, 2010; PackageReference: BF211-1; PackageDescription: 2 Bump Flip Chip, 1.32 x 0.66 x 0.54 mm, 0.704 mm Pitch, CSP; ComponentLink1Description: Manufacturer URL; ComponentLink1URL: www.maxim-ic.com; ComponentLink2Description: Datasheet; ComponentLink2URL: http://datasheets.maxim-ic.com/en/ds/DS2401.pdf
footprint BF211-1 (CSP, 2-Leads, Body 1.32x0.66mm, Pitch 0.704mm, Maxim Recommended)
pins: 1 DATA (DQ) (io), 2 GND (power)

## DS2401X1#U
designator U?
Silicon Serial Number, 2-pin CSP, -40° to + 85° C, RoHS Compliant, Cut Tape; DatasheetVersion: 1/02/2008; PackageVersion: revB, 2010; PackageReference: BF211-1; PackageDescription: 2 Bump Flip Chip, 1.32 x 0.66 x 0.54 mm, 0.704 mm Pitch, CSP; ComponentLink1Description: Manufacturer URL; ComponentLink1URL: www.maxim-ic.com; ComponentLink2Description: Datasheet; ComponentLink2URL: http://datasheets.maxim-ic.com/en/ds/DS2401.pdf
footprint BF211-1 (CSP, 2-Leads, Body 1.32x0.66mm, Pitch 0.704mm, Maxim Recommended)
pins: 1 DATA (DQ) (io), 2 GND (power)

## DS2401Z+
designator U?
Silicon Serial Number, 3-pin SOT223, -40° to + 85° C, Pb-Free; DatasheetVersion: 1/02/2008; PackageVersion: revB, 2010; PackageReference: K3+1; PackageDescription: 3-Pin SOT-223, Small-Outline Transistor Package (TO261), 6.5 x 3.5 x 1.75 mm Body, Pb-Free; Code_IPC: SOT223-4; ComponentLink1Description: Manufacturer URL; ComponentLink1URL: www.maxim-ic.com; ComponentLink2Description: Datasheet; ComponentLink2URL: http://datasheets.maxim-ic.com/en/ds/DS2401.pdf
footprint K3+1_N (SOT223, 4-Leads, Body 6.5x3.5mm, Pitch 2.3mm, Lead Span 7mm, IPC Medium Density)
footprint K3+1_L (SOT223, 4-Leads, Body 6.5x3.5mm, Pitch 2.3mm, Lead Span 7mm, IPC High Density)
footprint K3+1_M (SOT223, 4-Leads, Body 6.5x3.5mm, Pitch 2.3mm, Lead Span 7mm, IPC Low Density)
pins: 1 GND (power), 2 DATA (DQ) (io), 3 NC, 4 GND (power)

## DS2401Z+T&R
designator U?
Silicon Serial Number, 3-pin SOT223, -40° to + 85° C, Pb-Free, Tape and Reel; DatasheetVersion: 1/02/2008; PackageVersion: revB, 2010; PackageReference: K3+1; PackageDescription: 3-Pin SOT-223, Small-Outline Transistor Package (TO261), 6.5 x 3.5 x 1.75 mm Body, Pb-Free; Code_IPC: SOT223-4; ComponentLink1Description: Manufacturer URL; ComponentLink1URL: www.maxim-ic.com; ComponentLink2Description: Datasheet; ComponentLink2URL: http://datasheets.maxim-ic.com/en/ds/DS2401.pdf
footprint K3+1_N (SOT223, 4-Leads, Body 6.5x3.5mm, Pitch 2.3mm, Lead Span 7mm, IPC Medium Density)
footprint K3+1_L (SOT223, 4-Leads, Body 6.5x3.5mm, Pitch 2.3mm, Lead Span 7mm, IPC High Density)
footprint K3+1_M (SOT223, 4-Leads, Body 6.5x3.5mm, Pitch 2.3mm, Lead Span 7mm, IPC Low Density)
pins: 1 GND (power), 2 DATA (DQ) (io), 3 NC, 4 GND (power)

## DS2406+
designator U?
Dual Addressable Switch Plus 1Kb Memory, 3-pin TO-92, -40° to + 85° C, Pb-Free; DatasheetVersion: 1/04/2009; PackageVersion: revB, 2009; PackageReference: Q3+1; PackageDescription: TO-92 Package, Body Dia. 4.7mm; Leads 0.51 x 0.51 mm (max), Pb-Free; Code_JEDEC: TO-226-AA; ComponentLink1Description: Manufacturer URL; ComponentLink1URL: www.maxim-ic.com; ComponentLink2Description: Datasheet; ComponentLink2URL: http://datasheets.maxim-ic.com/en/ds/DS2406.pdf
footprint Q3+1 (TO, Flat Index; 3 In-Line, Axial Leads; Body Dia. 4.7mm; Leads 0.56 x 0.51 mm (max))
pins: 1 GND (power), 2 DATA (io), 3 PIO-A (io)

## DS2406+T&R
designator U?
Dual Addressable Switch Plus 1Kb Memory, 3-pin TO-92, -40° to + 85° C, Pb-Free; DatasheetVersion: 1/04/2009; PackageVersion: revB, 2010; PackageReference: Q3+4; PackageDescription: TO-92 Package, Formed Leads, Body Dia. 4.7mm; Leads 0.51 x 0.51 mm (max), Pb-Free; Code_JEDEC: TO-226-AA; ComponentLink1Description: Manufacturer URL; ComponentLink1URL: www.maxim-ic.com; ComponentLink2Description: Datasheet; ComponentLink2URL: http://datasheets.maxim-ic.com/en/ds/DS2406.pdf
footprint Q3+4 (TO, Flat Index; 3 In-Line, Formed Axial Leads; Body Dia. 4.7mm; Leads 0.56 x 0.51 mm (max))
pins: 1 GND (power), 2 DATA (io), 3 PIO-A (io)

## DS2406P+
designator U?
Dual Addressable Switch Plus 1Kb Memory, 6-pin TSOC, -40° to + 85° C, Pb-Free; DatasheetVersion: 1/04/2009; PackageVersion: revE, 2011; PackageReference: D6+1; PackageDescription: Thin Small-Outline, 6 C-Leads, 3.9 x 3.8 mm Body, 1.27 mm Pitch, TSOC, Pb-Free; ComponentLink1Description: Manufacturer URL; ComponentLink1URL: www.maxim-ic.com; ComponentLink2Description: Datasheet; ComponentLink2URL: http://datasheets.maxim-ic.com/en/ds/DS2406.pdf
footprint D6+1 (Small Outline; 6 C-Bend Leads; Body Width 3.8 mm; Pitch 1.27 mm, Maxim Recommended)
pins: 1 GND (power), 2 DATA (io), 3 PIO-A (io), 4 VCC (power), 5 NC, 6 PIO-B (io)

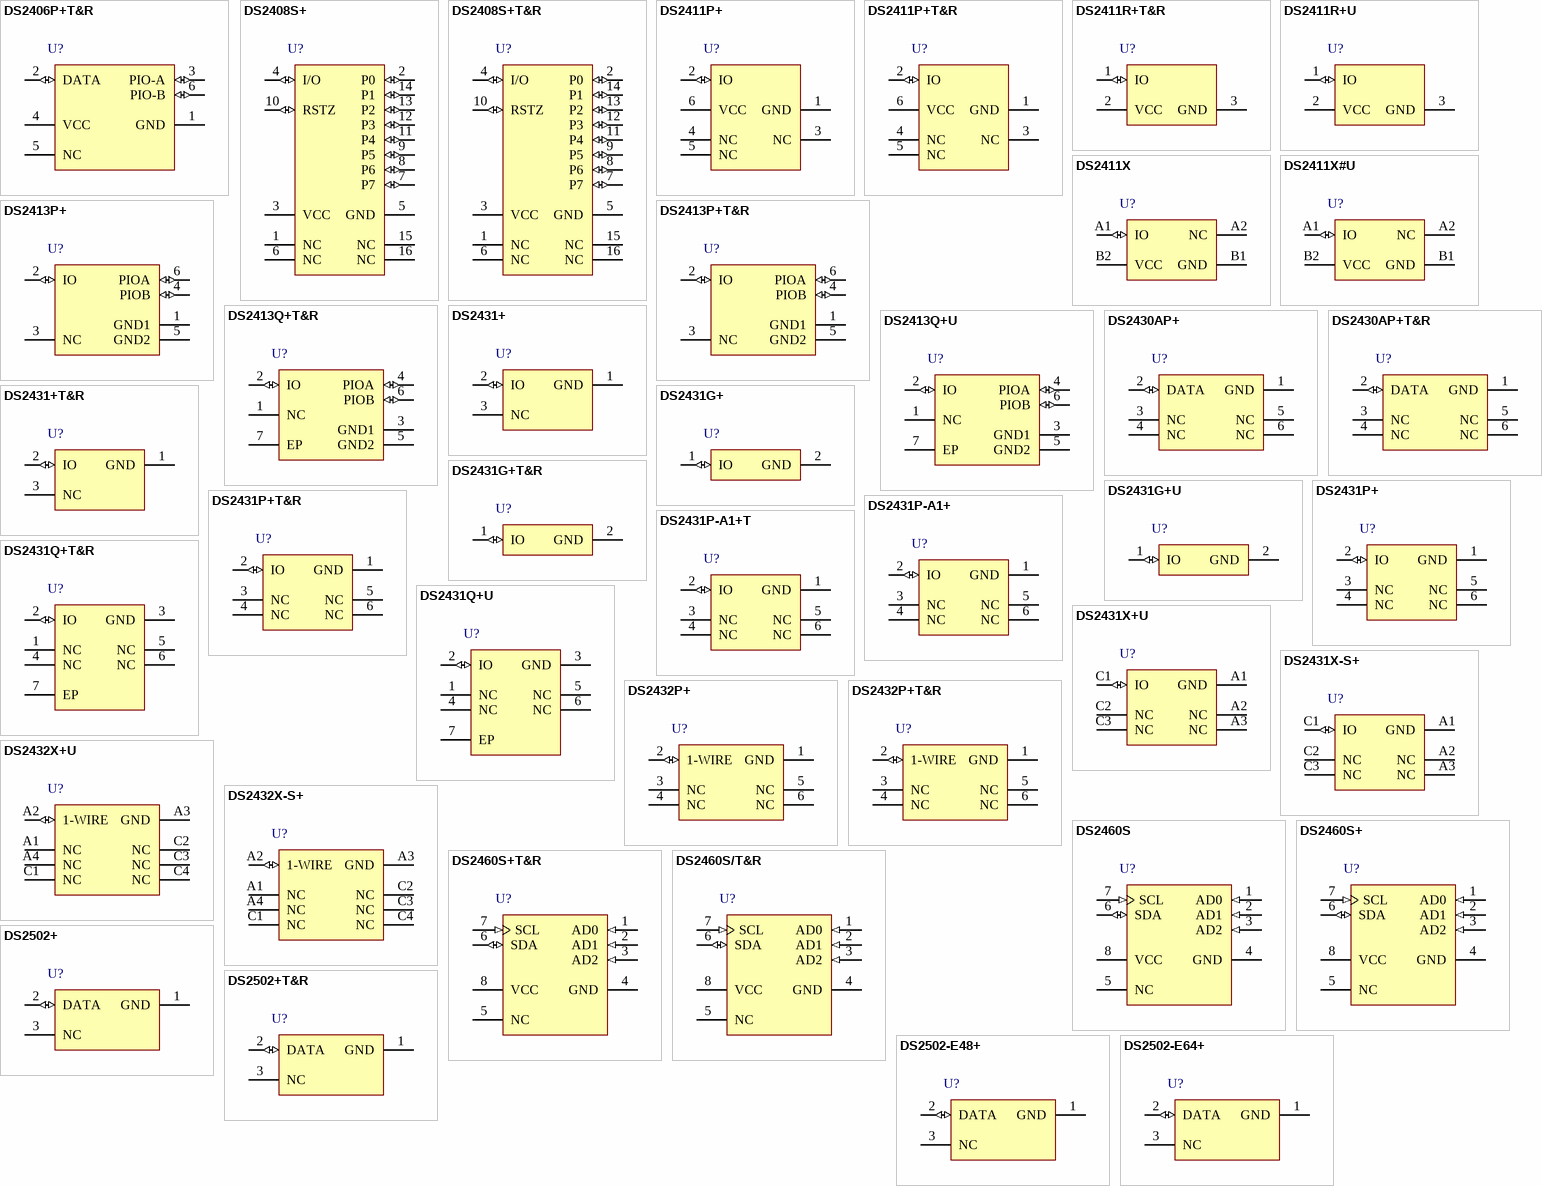
[diagram p12: symbols DS2406P+T&R to DS2502-E64+]

## DS2406P+T&R
designator U?
Dual Addressable Switch Plus 1Kb Memory, 6-pin TSOC, -40° to + 85° C, Pb-Free; DatasheetVersion: 1/04/2009; PackageVersion: revE, 2011; PackageReference: D6+1; PackageDescription: Thin Small-Outline, 6 C-Leads, 3.9 x 3.8 mm Body, 1.27 mm Pitch, TSOC, Pb-Free; ComponentLink1Description: Manufacturer URL; ComponentLink1URL: www.maxim-ic.com; ComponentLink2Description: Datasheet; ComponentLink2URL: http://datasheets.maxim-ic.com/en/ds/DS2406.pdf
footprint D6+1 (Small Outline; 6 C-Bend Leads; Body Width 3.8 mm; Pitch 1.27 mm, Maxim Recommended)
pins: 1 GND (power), 2 DATA (io), 3 PIO-A (io), 4 VCC (power), 5 NC, 6 PIO-B (io)

## DS2408S+
designator U?
1-Wire 8-Channel Addressable Switch, 16-pin SOIC, -40° to + 85° C, Pb-Free; DatasheetVersion: 1/12/2010; PackageVersion: revC, 2010; PackageReference: S16+5; PackageDescription: 16-Pin Small-Outline IC, Narrow (0.15in), 1.27 mm Pitch, SOIC (N), Pb-Free; Code_JEDEC: MS-012-AC; Code_IPC: SOIC127P600-16; ComponentLink1Description: Manufacturer URL; ComponentLink1URL: www.maxim-ic.com; ComponentLink2Description: Datasheet; ComponentLink2URL: http://datasheets.maxim-ic.com/en/ds/DS2408.pdf
footprint S16+5_N (SOIC, 16-Leads, Body 9.9x3.9mm, Pitch 1.27mm, IPC Medium Density)
footprint S16+5_L (SOIC, 16-Leads, Body 9.9x3.9mm, Pitch 1.27mm, IPC High Density)
footprint S16+5_M (SOIC, 16-Leads, Body 9.9x3.9mm, Pitch 1.27mm, IPC Low Density)
pins: 1 NC, 2 P0 (io), 3 VCC (power), 4 I/O (io), 5 GND (power), 6 NC, 7 P7 (io), 8 P6 (io), 9 P5 (io), 10 RSTZ (io), 11 P4 (io), 12 P3 (io), 13 P2 (io), 14 P1 (io), 15 NC, 16 NC

## DS2408S+T&R
designator U?
1-Wire 8-Channel Addressable Switch, 16-pin SOIC, -40° to + 85° C, Pb-Free, Tape and Reel; DatasheetVersion: 1/12/2010; PackageVersion: revC, 2010; PackageReference: S16+5; PackageDescription: 16-Pin Small-Outline IC, Narrow (0.15in), 1.27 mm Pitch, SOIC (N), Pb-Free; Code_JEDEC: MS-012-AC; Code_IPC: SOIC127P600-16; ComponentLink1Description: Manufacturer URL; ComponentLink1URL: www.maxim-ic.com; ComponentLink2Description: Datasheet; ComponentLink2URL: http://datasheets.maxim-ic.com/en/ds/DS2408.pdf
footprint S16+5_N (SOIC, 16-Leads, Body 9.9x3.9mm, Pitch 1.27mm, IPC Medium Density)
footprint S16+5_L (SOIC, 16-Leads, Body 9.9x3.9mm, Pitch 1.27mm, IPC High Density)
footprint S16+5_M (SOIC, 16-Leads, Body 9.9x3.9mm, Pitch 1.27mm, IPC Low Density)
pins: 1 NC, 2 P0 (io), 3 VCC (power), 4 I/O (io), 5 GND (power), 6 NC, 7 P7 (io), 8 P6 (io), 9 P5 (io), 10 RSTZ (io), 11 P4 (io), 12 P3 (io), 13 P2 (io), 14 P1 (io), 15 NC, 16 NC

## DS2411P+
designator U?
Silicon Serial Number with VCC Input, 6-pin TSOC, -40° to + 85° C, Pb-Free; DatasheetVersion: 1/06/2009; PackageVersion: revE, 2011; PackageReference: D6+1; PackageDescription: Thin Small-Outline, 6 C-Leads, 3.9 x 3.8 mm Body, 1.27 mm Pitch, TSOC, Pb-Free; ComponentLink1Description: Manufacturer URL; ComponentLink1URL: www.maxim-ic.com; ComponentLink2Description: Datasheet; ComponentLink2URL: http://datasheets.maxim-ic.com/en/ds/DS2411.pdf
footprint D6+1 (Small Outline; 6 C-Bend Leads; Body Width 3.8 mm; Pitch 1.27 mm, Maxim Recommended)
pins: 1 GND (power), 2 IO (io), 3 NC, 4 NC, 5 NC, 6 VCC (power)

## DS2411P+T&R
designator U?
Silicon Serial Number with VCC Input, 6-pin TSOC, -40° to + 85° C, Pb-Free, Tape and Reel; DatasheetVersion: 1/06/2009; PackageVersion: revE, 2011; PackageReference: D6+1; PackageDescription: Thin Small-Outline, 6 C-Leads, 3.9 x 3.8 mm Body, 1.27 mm Pitch, TSOC, Pb-Free; ComponentLink1Description: Manufacturer URL; ComponentLink1URL: www.maxim-ic.com; ComponentLink2Description: Datasheet; ComponentLink2URL: http://datasheets.maxim-ic.com/en/ds/DS2411.pdf
footprint D6+1 (Small Outline; 6 C-Bend Leads; Body Width 3.8 mm; Pitch 1.27 mm, Maxim Recommended)
pins: 1 GND (power), 2 IO (io), 3 NC, 4 NC, 5 NC, 6 VCC (power)

## DS2411R+T&R
designator U?
Silicon Serial Number with VCC Input, 3-pin SOT23, -40° to + 85° C, Pb-Free, Tape and Reel; DatasheetVersion: 1/06/2009; PackageVersion: revI, 2010; PackageReference: U3+2; PackageDescription: 3-Pin Small-Outline Transistor Package 0.95 mm Pitch, 2.4 mm Lead Span, SOT-23, Pb-Free; Code_JEDEC: TO-236-AB; Code_IPC: SOT23-3; ComponentLink1Description: Manufacturer URL; ComponentLink1URL: www.maxim-ic.com; ComponentLink2Description: Datasheet; ComponentLink2URL: http://datasheets.maxim-ic.com/en/ds/DS2411.pdf
footprint U3+2_N (SOT23, 3-Leads, Body 2.9x1.3mm, Pitch 0.95mm, Lead Span 2.4mm, IPC Medium Density)
footprint U3+2_L (SOT23, 3-Leads, Body 2.9x1.3mm, Pitch 0.95mm, Lead Span 2.4mm, IPC High Density)
footprint U3+2_M (SOT23, 3-Leads, Body 2.9x1.3mm, Pitch 0.95mm, Lead Span 2.4mm, IPC Low Density)
pins: 1 IO (io), 2 VCC (power), 3 GND (power)

## DS2411R+U
designator U?
Silicon Serial Number with VCC Input, 3-pin SOT23, -40° to + 85° C, Pb-Free, Cut Tape; DatasheetVersion: 1/06/2009; PackageVersion: revI, 2010; PackageReference: U3+2; PackageDescription: 3-Pin Small-Outline Transistor Package 0.95 mm Pitch, 2.4 mm Lead Span, SOT-23, Pb-Free; Code_JEDEC: TO-236-AB; Code_IPC: SOT23-3; ComponentLink1Description: Manufacturer URL; ComponentLink1URL: www.maxim-ic.com; ComponentLink2Description: Datasheet; ComponentLink2URL: http://datasheets.maxim-ic.com/en/ds/DS2411.pdf
footprint U3+2_N (SOT23, 3-Leads, Body 2.9x1.3mm, Pitch 0.95mm, Lead Span 2.4mm, IPC Medium Density)
footprint U3+2_L (SOT23, 3-Leads, Body 2.9x1.3mm, Pitch 0.95mm, Lead Span 2.4mm, IPC High Density)
footprint U3+2_M (SOT23, 3-Leads, Body 2.9x1.3mm, Pitch 0.95mm, Lead Span 2.4mm, IPC Low Density)
pins: 1 IO (io), 2 VCC (power), 3 GND (power)

## DS2411X
designator U?
Silicon Serial Number with VCC Input, 4-pin FCHIP, -40° to + 85° C; DatasheetVersion: 1/06/2009; PackageVersion: revB, 2010; PackageReference: BF411-1; PackageDescription: 4 Bump Flip Chip, 0.69 x 1.09 x 0.43 mm Body, 0.44mm Pitch, CSP; ComponentLink1Description: Manufacturer URL; ComponentLink1URL: www.maxim-ic.com; ComponentLink2Description: Datasheet; ComponentLink2URL: http://datasheets.maxim-ic.com/en/ds/DS2411.pdf
footprint BF411-1 (Chip-Scale Package, 4-Bumps, Body 0.69x1.09mm, Pitch 0.44mm)
pins: A1 IO (io), A2 NC, B1 GND (power), B2 VCC (power)

## DS2411X#U
designator U?
Silicon Serial Number with VCC Input, 4-pin FCHIP, -40° to + 85° C, RoHS Compliant, Cut Tape; DatasheetVersion: 1/06/2009; PackageVersion: revB, 2010; PackageReference: BF411-1; PackageDescription: 4 Bump Flip Chip, 0.69 x 1.09 x 0.43 mm Body, 0.44mm Pitch, CSP; ComponentLink1Description: Manufacturer URL; ComponentLink1URL: www.maxim-ic.com; ComponentLink2Description: Datasheet; ComponentLink2URL: http://datasheets.maxim-ic.com/en/ds/DS2411.pdf
footprint BF411-1 (Chip-Scale Package, 4-Bumps, Body 0.69x1.09mm, Pitch 0.44mm)
pins: A1 IO (io), A2 NC, B1 GND (power), B2 VCC (power)

## DS2413P+
designator U?
1-Wire Dual Channel Addressable Switch, 6-pin TSOC, 0° to + 70° C, Pb-Free; DatasheetVersion: 1/07/2010; PackageVersion: revE, 2011; PackageReference: D6+1; PackageDescription: Thin Small-Outline, 6 C-Leads, 3.9 x 3.8 mm Body, 1.27 mm Pitch, TSOC, Pb-Free; ComponentLink1Description: Manufacturer URL; ComponentLink1URL: www.maxim-ic.com; ComponentLink2Description: Datasheet; ComponentLink2URL: http://datasheets.maxim-ic.com/en/ds/DS2413.pdf
footprint D6+1 (Small Outline; 6 C-Bend Leads; Body Width 3.8 mm; Pitch 1.27 mm, Maxim Recommended)
pins: 1 GND1 (power), 2 IO (io), 3 NC, 4 PIOB (io), 5 GND2 (power), 6 PIOA (io)

## DS2413P+T&R
designator U?
1-Wire Dual Channel Addressable Switch, 6-pin TSOC, 0° to + 70° C, Pb-Free, Tape and Reel; DatasheetVersion: 1/07/2010; PackageVersion: revE, 2011; PackageReference: D6+1; PackageDescription: Thin Small-Outline, 6 C-Leads, 3.9 x 3.8 mm Body, 1.27 mm Pitch, TSOC, Pb-Free; ComponentLink1Description: Manufacturer URL; ComponentLink1URL: www.maxim-ic.com; ComponentLink2Description: Datasheet; ComponentLink2URL: http://datasheets.maxim-ic.com/en/ds/DS2413.pdf
footprint D6+1 (Small Outline; 6 C-Bend Leads; Body Width 3.8 mm; Pitch 1.27 mm, Maxim Recommended)
pins: 1 GND1 (power), 2 IO (io), 3 NC, 4 PIOB (io), 5 GND2 (power), 6 PIOA (io)